# Altium footprint library DPAK.PcbLib: 1 footprints
Each footprint in its own frame and in the unit in brackets; x right, y up, seen from the top. Pads: shape width x height; smd on the part's side, far side on the other; paste and mask are expansions set on the pad; w line width, h text height; cw(c..) or ccw(c..) is an arc to the next point about the centre after c.
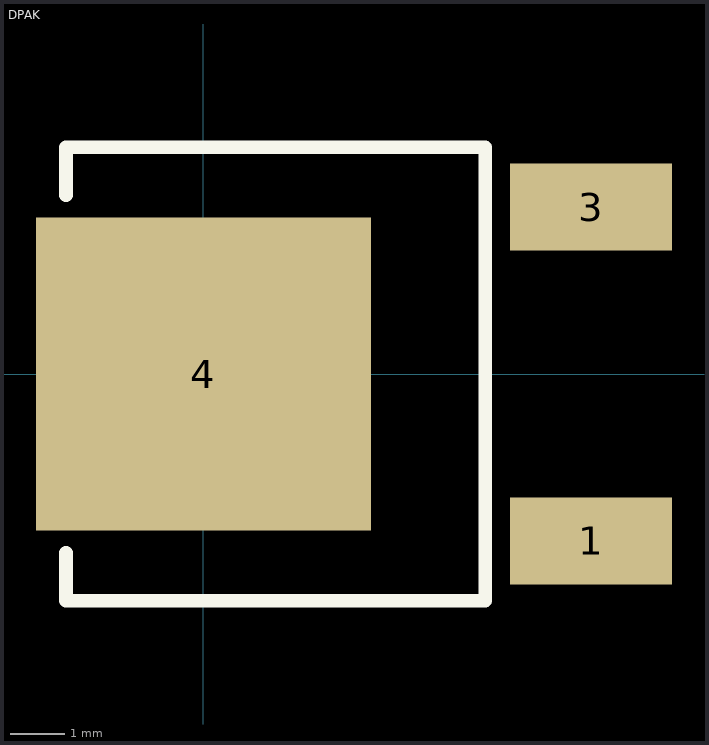
[diagram p0: the footprint, top view; thin cyan lines are the x and y axes]

## DPAK [mil]
height 94.49
pads (3):
  rect 118x63 smd: 1(282,-121.5) 3(282,121.5)
  rect 244x228 smd: 4(0,0)
Top Overlay:
  lines w10: -100,-130 -100,-165 205,-165 205,165 -100,165 -100,130
3D body: height 94.49, standoff 0, extent -105,-170 210,170